# Altium schematic symbol library CN HDR 4POS Molex 26013115 (R).Schlib: 1 symbol
Pins are listed as number, name and electrical type; pins without a type are passive.

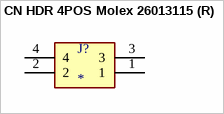
[diagram p0: symbol CN HDR 4POS Molex 26013115 (R)]

## CN HDR 4POS Molex 26013115 (R)
designator J?
Molex 26013115 4POS Minifit / dual row, right angle
footprint 26013115
pins: 1, 2, 3, 4